# EAGLE library part LCD_2X16_CON2 (library lcd_2x16_led_backlight)
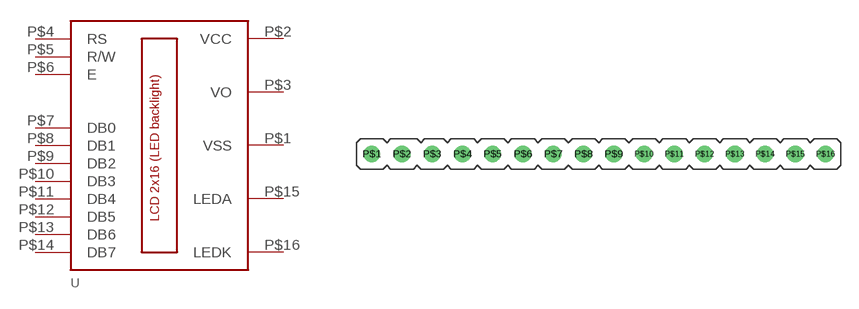
[diagram p3: symbol with the pads of 16X1_DIP; footprint 16X1_DIP]

Designator prefix -

## LCD_2X16_CON2  [16X1_DIP]
P$1  VSS  pwr
P$2  VCC  pwr
P$3  VO  in
P$4  RS  in
P$5  R/W  in
P$6  E  in
P$7  DB0
P$8  DB1
P$9  DB2
P$10  DB3
P$11  DB4
P$12  DB5
P$13  DB6
P$14  DB7
P$15  LEDA  pas
P$16  LEDK  pas

## Footprint 16X1_DIP (pad centres in mm)
drill 0.9: P$1 -19.05,0; P$2 -16.51,0; P$3 -13.97,0; P$4 -11.43,0; P$5 -8.89,0; P$6 -6.35,0; P$7 -3.81,0; P$8 -1.27,0; P$9 1.27,0; P$10 3.81,0; P$11 6.35,0; P$12 8.89,0; P$13 11.43,0; P$14 13.97,0; P$15 16.51,0; P$16 19.05,0